# Altium schematic symbol library IND,4.7uH,1.5A,Wirewound,Thru.Schlib: 1 symbol
Pins are listed as number, name and electrical type; pins without a type are passive.

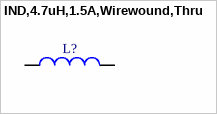
[diagram p0: symbol IND,4.7uH,1.5A,Wirewound,Thru]

## IND,4.7uH,1.5A,Wirewound,Thru
designator L?
pins: 1, 2